# Altium footprint library mems.PCBLIB: 1 footprints
Each footprint in its own frame and in the unit in brackets; x right, y up, seen from the top. Pads: shape width x height; smd on the part's side, far side on the other; paste and mask are expansions set on the pad; w line width, h text height; cw(c..) or ccw(c..) is an arc to the next point about the centre after c.
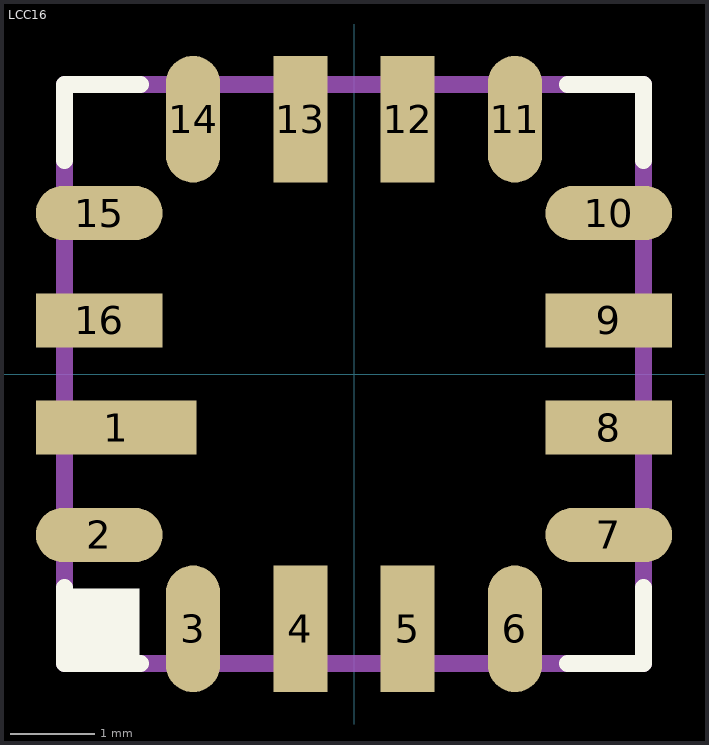
[diagram p0: the footprint, top view; thin cyan lines are the x and y axes]

## LCC16 [mil]
pads (16):
  rect 74.8x25.2 smd: 1(-110.83,-25)
  rrect100% 59.06x25.2 smd: 2(-118.7,-75) 7(118.7,-75) 10(118.7,75) 15(-118.7,75)
  rrect100% 25.2x59.06 smd: 3(-75,-118.7) 6(75,-118.7) 11(75,118.7) 14(-75,118.7)
  rect 25.2x59.06 smd: 4(-25,-118.7) 5(25,-118.7) 12(25,118.7) 13(-25,118.7)
  rect 59.06x25.2 smd: 8(118.7,-25) 9(118.7,25) 16(-118.7,25)
Top Overlay:
  rectangle: -134.84,-135.83 -100,-100
  lines w8: -134.84,-99.41 -134.84,-134.84 -99.41,-134.84 ; -134.84,99.41 -134.84,134.84 -99.41,134.84 ; 99.41,-134.84 134.84,-134.84 134.84,-99.41 ; 99.41,134.84 134.84,134.84 134.84,99.41
Mechanical 16:
  lines w8: -134.84,-134.84 134.84,-134.84 134.84,134.84 -134.84,134.84 -134.84,-134.84